# Altium schematic symbol library flog.SchLib: 1 symbol
Pins are listed as number, name and electrical type; pins without a type are passive.

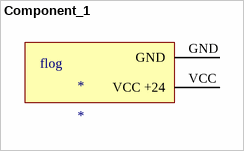
[diagram p0: symbol Component_1]

## Component_1
designator *
pins: GND, VCC VCC +24
text: flog